# EAGLE library part GL850G (library OMAT_IC)
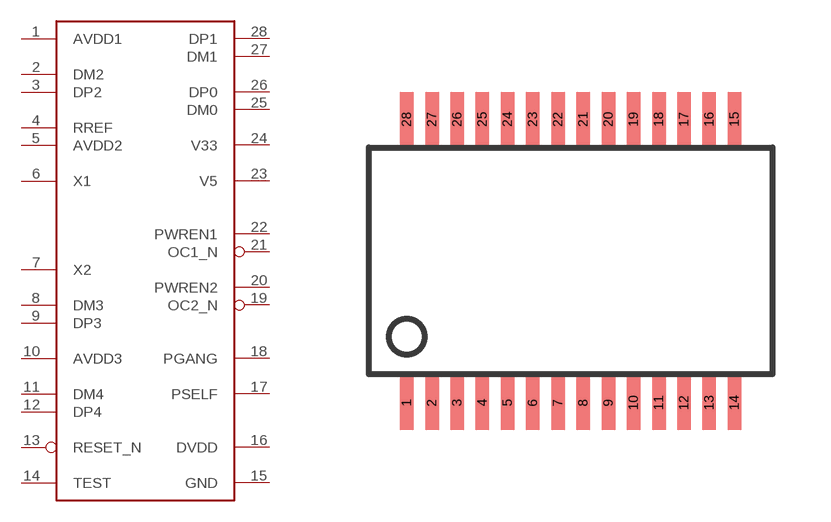
[diagram p3: symbol with the pads of SSOP28DB; footprint SSOP28DB]

Designator prefix -

## GL850G  [SSOP28DB]
1  AVDD1
2  DM2
3  DP2
4  RREF
5  AVDD2
6  X1
7  X2
8  DM3
9  DP3
10  AVDD3
11  DM4
12  DP4
13  RESET_N
14  TEST
15  GND
16  DVDD
17  PSELF
18  PGANG
19  OC2_N
20  PWREN2
21  OC1_N
22  PWREN1
23  V5
24  V33
25  DM0
26  DP0
27  DM1
28  DP1

## Footprint SSOP28DB (pad centres in mm)
Small Shrink Outline Package
smd 0.348 x 1.397: 1 -4.225,-3.656; 2 -3.575,-3.656; 3 -2.925,-3.656; 4 -2.275,-3.656; 5 -1.625,-3.656; 6 -0.975,-3.656; 7 -0.325,-3.656; 8 0.325,-3.656; 9 0.975,-3.656; 10 1.625,-3.656; 11 2.275,-3.656; 12 2.925,-3.656; 13 3.575,-3.656; 14 4.225,-3.656; 15 4.225,3.656; 16 3.575,3.656; 17 2.925,3.656; 18 2.275,3.656; 19 1.625,3.656; 20 0.975,3.656; 21 0.325,3.656; 22 -0.325,3.656; 23 -0.975,3.656; 24 -1.625,3.656; 25 -2.275,3.656; 26 -2.925,3.656; 27 -3.575,3.656; 28 -4.225,3.656